# Altium schematic symbol library AD5693RARMZ.SchLib: 1 symbol
Pins are listed as number, name and electrical type; pins without a type are passive.

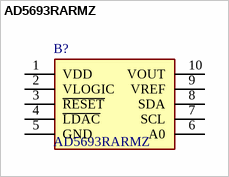
[diagram p0: symbol AD5693RARMZ]

## AD5693RARMZ
designator B?
Analog Devices AD5693RARMZ, 16 bit Serial DAC, 10-Pin MSOP; Geometry.Height: 1.1mm; Mouser Part Number: 584-AD5693RARMZ; Mouser Price/Stock: https://www.mouser.co.uk/ProductDetail/Analog-Devices/AD5693RARMZ?qs=vPP9GyyTAo0MlAXojaRB6w%3D%3D; Manufacturer_Name: Analog Devices; Manufacturer_Part_Number: AD5693RARMZ; Datasheet Link: https://www.analog.com/media/en/technical-documentation/data-sheets/ad5693r_5692r_5691r_5693.pdf
footprint SOP50P490X110-10N
pins: 1 VDD, 2 VLOGIC, 3 ~{RESET}, 4 ~{LDAC}, 5 GND, 6 A0, 7 SCL, 8 SDA, 9 VREF, 10 VOUT